# Altium footprint library LUCRARE_LICENTA_FOOTPRINT.PcbLib: 2 footprints
Each footprint in its own frame and in the unit in brackets; x right, y up, seen from the top. Pads: shape width x height; smd on the part's side, far side on the other; paste and mask are expansions set on the pad; w line width, h text height; cw(c..) or ccw(c..) is an arc to the next point about the centre after c.
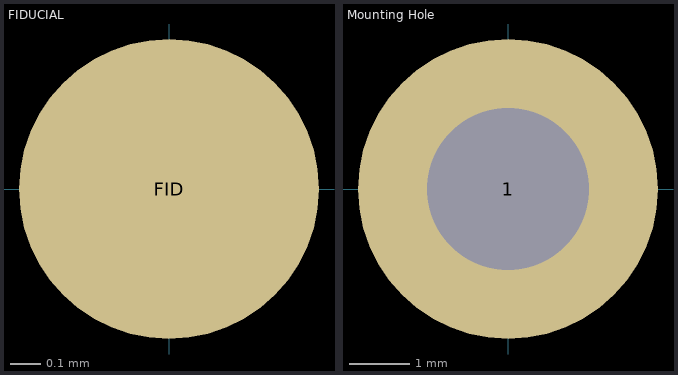
[diagram p0: the footprints below, top view; thin cyan lines are the x and y axes]

## FIDUCIAL [mm]
pads (1):
  round 1 smd paste-2 mask+0.508: FID(0,0)
Mechanical 1:
  text ".Designator" at -6.426,-0.434 h1.3

## Mounting Hole [mm]
pads (1):
  round 5 hole 2.7: 1(0,0)
Mechanical 1:
  text ".Designator" at -6.429,-0.434 h1.3